# Altium schematic symbol library SB-4x6.Schlib: 1 symbol
Pins are listed as number, name and electrical type; pins without a type are passive.

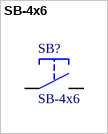
[diagram p0: symbol SB-4x6]

## SB-4x6
designator SB?
footprint Button-6*4.5
pins: 1, 2